# Altium schematic symbol library MC14551.Schlib: 1 symbol
Pins are listed as number, name and electrical type; pins without a type are passive.

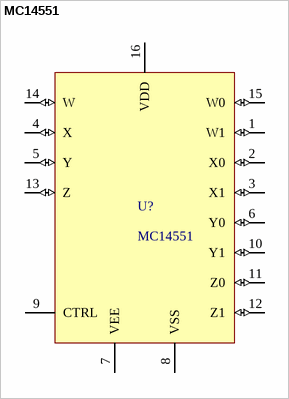
[diagram p0: symbol MC14551]

## MC14551
designator U?
pins: 1 W1 (io), 2 X0 (io), 3 X1 (io), 4 X (io), 5 Y (io), 6 Y0 (io), 7 VEE, 8 VSS, 9 CTRL, 10 Y1 (io), 11 Z0 (io), 12 Z1 (io), 13 Z (io), 14 W (io), 15 W0 (io), 16 VDD